# Altium footprint library 2pin-nanofit.PcbLib: 1 footprints
Each footprint in its own frame and in the unit in brackets; x right, y up, seen from the top. Pads: shape width x height; smd on the part's side, far side on the other; paste and mask are expansions set on the pad; w line width, h text height; cw(c..) or ccw(c..) is an arc to the next point about the centre after c.
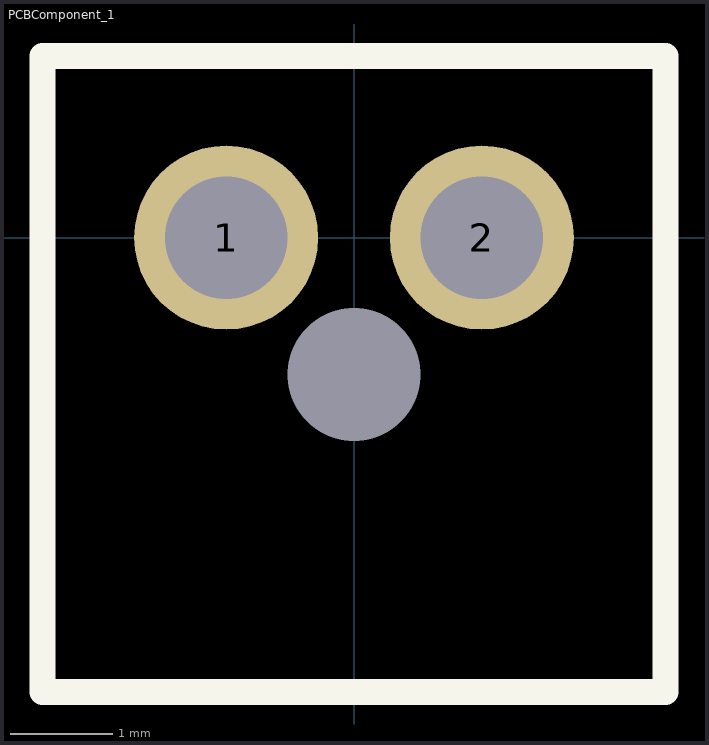
[diagram p0: the footprint, top view; thin cyan lines are the x and y axes]

## PCBComponent_1 [mm]
pads (3):
  round 1.8 hole 1.2: 1(-1.25,0) 2(1.25,0)
  round 0 hole 1.3: ""(0,-1.34)
Top Overlay:
  lines w0.254: -3.048,-4.445 3.048,-4.445 3.048,1.778 -3.048,1.778 -3.048,-4.445
3D body "1053091102.stp": height 9.68, standoff -4.03, extent -2.97,-4.562 2.97,1.778